# EAGLE library part L298 (library L298)
DUAL FULL-BRIDGE DRIVER
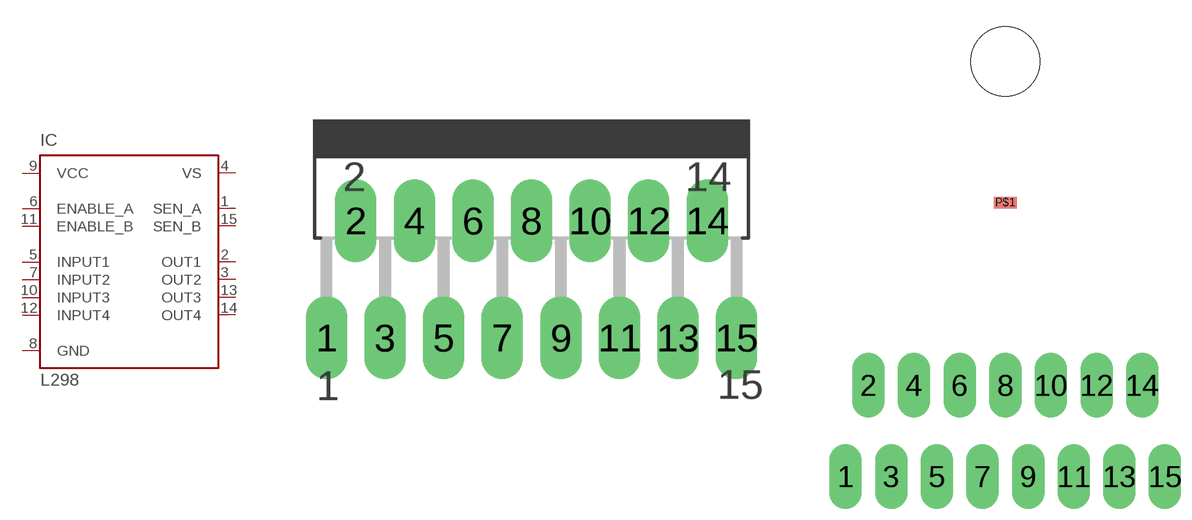
[diagram p0: symbol with the pads of MULTIWATT-15; footprints MULTIWATT-15, MULTIWATT-15H]

Designator prefix IC

## L298 (MPN: L298N; OC_FARNELL: 1589425; OC_NEWARK: 32M1527)  [MULTIWATT-15]
1  SEN_A  in
2  OUT1  out
3  OUT2  out
4  VS  pwr
5  INPUT1  in
6  ENABLE_A  in
7  INPUT2  in
8  GND  pwr
9  VCC  pwr
10  INPUT3  in
11  ENABLE_B  in
12  INPUT4  in
13  OUT3  out
14  OUT4  out
15  SEN_B  in

## L298H  [MULTIWATT-15H]
Pads as for MULTIWATT-15

## L298P  [POWER-SO20]
1  GND  pwr
2  SEN_A  in
4  OUT1  out
5  OUT2  out
6  VS  pwr
7  INPUT1  in
8  ENABLE_A  in
9  INPUT2  in
10  GND  pwr
11  GND  pwr
12  VCC  pwr
13  INPUT3  in
14  ENABLE_B  in
15  INPUT4  in
16  OUT3  out
17  OUT4  out
19  SEN_B  in
20  GND  pwr
21  GND  pwr

## Footprint MULTIWATT-15 (pad centres in mm)
Multiwatt 15 lead
drill 1.2 long: 1 -8.89,-7.62; 2 -7.62,-2.54; 3 -6.35,-7.62; 4 -5.08,-2.54; 5 -3.81,-7.62; 6 -2.54,-2.54; 7 -1.27,-7.62; 8 0,-2.54; 9 1.27,-7.62; 10 2.54,-2.54; 11 3.81,-7.62; 12 5.08,-2.54; 13 6.35,-7.62; 14 7.62,-2.54; 15 8.89,-7.62

## Footprint MULTIWATT-15H (pad centres in mm)
Multiwatt 15 Horizontal lead
drill 1.2 long: 1 -8.89,-7.62; 2 -7.62,-2.54; 3 -6.35,-7.62; 4 -5.08,-2.54; 5 -3.81,-7.62; 6 -2.54,-2.54; 7 -1.27,-7.62; 8 0,-2.54; 9 1.27,-7.62; 10 2.54,-2.54; 11 3.81,-7.62; 12 5.08,-2.54; 13 6.35,-7.62; 14 7.62,-2.54; 15 8.89,-7.62
smd 1.27 x 0.635: P$1 0,7.62
hole 3.85 at 0,15.49

## Footprint POWER-SO20 (pad centres in mm)
Power Small Outline package Footprint based on TN1258 <https://www.st.com/resource/en/technical_note/dm00454055-an-innovative-high-power-ic-surface-mount-package-family-powerso20--powerso36-power-ic-packaging-from-insertion-to-surface-mounting-stmicroelectronics.pdf> Technical note
smd 0.76 x 1.83: 1 -5.715,-6.625; 2 -4.445,-6.625; 3 -3.175,-6.625; 4 -1.905,-6.625; 5 -0.635,-6.625; 6 0.635,-6.625; 7 1.905,-6.625; 8 3.175,-6.625; 9 4.445,-6.625; 10 5.715,-6.625; 11 5.715,6.625; 12 4.445,6.625; 13 3.175,6.625; 14 1.905,6.625; 15 0.635,6.625; 16 -0.635,6.625; 17 -1.905,6.625; 18 -3.175,6.625; 19 -4.445,6.625; 20 -5.715,6.625
smd 16.4 x 8.94: 21 0,0
hole 0.6 at 0,0
hole 0.6 at 0,1.27
hole 0.6 at 0,2.54
hole 0.6 at 0,3.81
hole 0.6 at 0,-1.27
hole 0.6 at 0,-2.54
hole 0.6 at 0,-3.81
hole 0.6 at -1.27,3.81
hole 0.6 at -2.54,3.81
hole 0.6 at -2.54,3.81
hole 0.6 at -3.81,3.81
hole 0.6 at -5.08,3.81
hole 0.6 at -6.35,3.81
hole 0.6 at 1.27,3.81
hole 0.6 at 2.54,3.81
hole 0.6 at 3.81,3.81
hole 0.6 at 5.08,3.81
hole 0.6 at 6.35,3.81
hole 0.6 at 7.62,3.81
hole 0.6 at -7.62,3.81
hole 0.6 at -7.62,-3.81
hole 0.6 at -6.35,-3.81
hole 0.6 at -5.08,-3.81
hole 0.6 at -3.81,-3.81
hole 0.6 at -2.54,-3.81
hole 0.6 at -1.27,-3.81
hole 0.6 at 1.27,-3.81
hole 0.6 at 2.54,-3.81
hole 0.6 at 3.81,-3.81
hole 0.6 at 5.08,-3.81
hole 0.6 at 6.35,-3.81
hole 0.6 at 7.62,-3.81
hole 0.6 at 2.54,2.54
hole 0.6 at 2.54,1.27
hole 0.6 at 2.54,0
hole 0.6 at 2.54,-1.27
hole 0.6 at 2.54,-2.54
hole 0.6 at 5.08,2.54
hole 0.6 at 6.35,2.54
hole 0.6 at 7.62,2.54
hole 0.6 at 5.08,1.27
hole 0.6 at 5.08,0
hole 0.6 at 5.08,-1.27
hole 0.6 at 5.08,-2.54
hole 0.6 at 6.35,-2.54
hole 0.6 at 7.62,-2.54
hole 0.6 at -2.54,2.54
hole 0.6 at -2.54,1.27
hole 0.6 at -2.54,0
hole 0.6 at -2.54,-1.27
hole 0.6 at -2.54,-2.54
hole 0.6 at -5.08,2.54
hole 0.6 at -5.08,1.27
hole 0.6 at -5.08,0
hole 0.6 at -5.08,-1.27
hole 0.6 at -5.08,-2.54
hole 0.6 at -7.62,2.54
hole 0.6 at -6.35,2.54
hole 0.6 at -6.35,-2.54
hole 0.6 at -7.62,-2.54